# EAGLE library part AP34063 (library IC & Transistor)
Universal DC/DC Converter
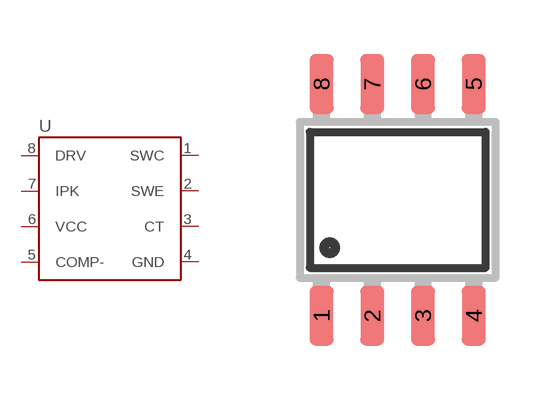
[diagram p0: symbol with the pads of SOIC-08N; footprint SOIC-08N]

Designator prefix U

## AP34063_(SOIC-08N) (CYTRON-PC: S-IC-APS34063-SO8; DESC: S Switching Regulator APS34063 SO8; MF: Diodes Incorporated; MPN: AP34063S8L-13)  [SOIC-08N]
1  SWC
2  SWE
3  CT
4  GND
5  COMP-
6  VCC
7  IPK
8  DRV

## Footprint SOIC-08N (pad centres in mm)
Small Outline Integrated Circuit (SOIC) Narrow (JEDEC) SOIC Package Size: 4.9mm x 3.9mm Lead Pitch: 1.27mm
smd 0.6 x 1.5: 1 -1.905,-2.9; 2 -0.635,-2.9; 3 0.635,-2.9; 4 1.905,-2.9; 5 1.905,2.9; 6 0.635,2.9; 7 -0.635,2.9; 8 -1.905,2.9